# EAGLE library part LM3488MM/NOPB (library exportWB2)
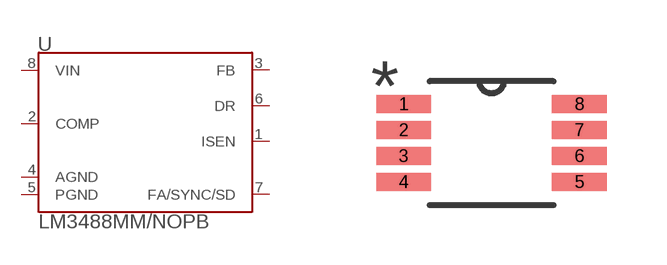
[diagram p0: symbol with the pads of MUA08A; footprint MUA08A]

Designator prefix -

## LM3488MM/NOPB (MANUFACTURER_PART_NUMBER: LM3488MMNOPB; VENDOR: Texas Instruments)  [MUA08A]
1  ISEN  pas
2  COMP  pas
3  FB  pas
4  AGND  pas
5  PGND  pas
6  DR  pas
7  FA/SYNC/SD  pas
8  VIN  pas

## Footprint MUA08A (pad centres in mm)
smd 1.372 x 0.457: 1 -2.197,0.975; 2 -2.197,0.325; 3 -2.197,-0.325; 4 -2.197,-0.975; 5 2.197,-0.975; 6 2.197,-0.325; 7 2.197,0.325; 8 2.197,0.975